# Altium footprint library PARTICLE_B_SOM_M2.PcbLib: 1 footprints
Each footprint in its own frame and in the unit in brackets; x right, y up, seen from the top. Pads: shape width x height; smd on the part's side, far side on the other; paste and mask are expansions set on the pad; w line width, h text height; cw(c..) or ccw(c..) is an arc to the next point about the centre after c.
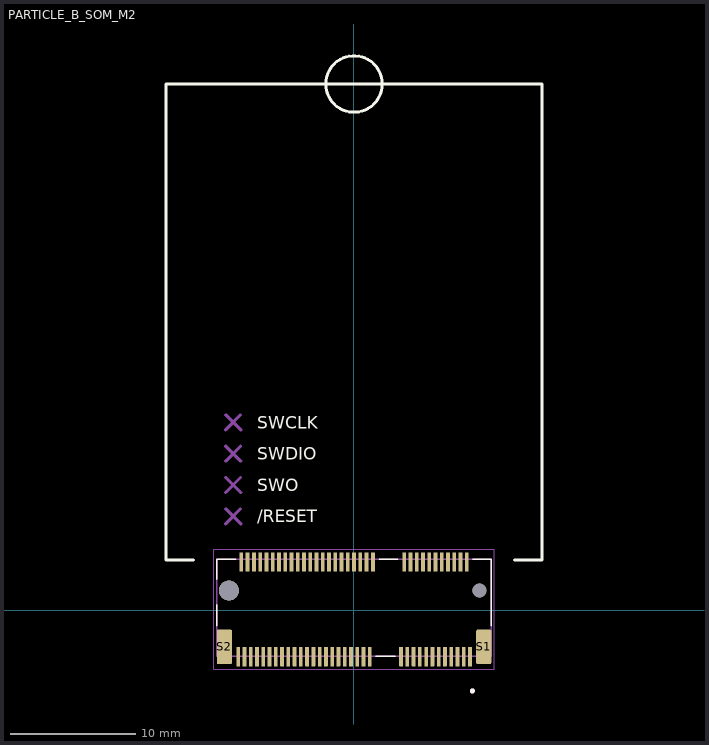
[diagram p0: the footprint, top view; thin cyan lines are the x and y axes]

## PARTICLE_B_SOM_M2 [mm]
pads (71):
  rrect15% 0.3x1.55 smd mask+0.052: 1(9.258,-3.707) 2(9.008,3.843) 3(8.758,-3.707) 4(8.508,3.843) 5(8.258,-3.707) 6(8.008,3.843) 7(7.758,-3.707) 8(7.508,3.843) 9(7.258,-3.707) 10(7.008,3.843) 11(6.758,-3.707) 12(6.508,3.843) 13(6.258,-3.707) 14(6.008,3.843) 15(5.758,-3.707) 16(5.508,3.843) 17(5.258,-3.707) 18(5.008,3.843) 19(4.758,-3.707) 20(4.508,3.843) 21(4.258,-3.707) 22(4.008,3.843) 23(3.758,-3.707) 32(1.508,3.843) 33(1.258,-3.707) 34(1.008,3.843) 35(0.758,-3.707) 36(0.508,3.843) 37(0.258,-3.707) 38(0.008,3.843) 39(-0.242,-3.707) 40(-0.492,3.843) 41(-0.742,-3.707) 42(-0.992,3.843) 43(-1.242,-3.707) 44(-1.492,3.843) 45(-1.742,-3.707) 46(-1.992,3.843) 47(-2.242,-3.707) 48(-2.492,3.843) 49(-2.742,-3.707) 50(-2.992,3.843) 51(-3.242,-3.707) 52(-3.492,3.843) 53(-3.742,-3.707) 54(-3.992,3.843) 55(-4.242,-3.707) 56(-4.492,3.843) 57(-4.742,-3.707) 58(-4.992,3.843) 59(-5.242,-3.707) 60(-5.492,3.843) 61(-5.742,-3.707) 62(-5.992,3.843) 63(-6.242,-3.707) 64(-6.492,3.843) 65(-6.742,-3.707) 66(-6.992,3.843) 67(-7.242,-3.707) 68(-7.492,3.843) 69(-7.742,-3.707) 70(-7.992,3.843) 71(-8.242,-3.707) 72(-8.492,3.843) 73(-8.742,-3.707) 74(-8.992,3.843) 75(-9.242,-3.707)
  rrect15% 1.2x2.75 smd: S1(10.358,-2.932) S2(-10.342,-2.932)
  round 1.6 hole 1.6 unplated: ""(-9.992,1.568)
  round 1.1 hole 1.1 unplated: ""(10.008,1.568)
Top Overlay:
  circle w0.2: c9.442,-6.446 r0.1
  circle w0.24: c0,42 r2.25
  lines w0.127: -10.942,-1.237 -10.942,0.448 ; -10.942,2.468 -10.942,4.068 -9.462,4.068 ; 1.728,-3.682 3.288,-3.682 ; 2.008,4.068 3.508,4.068 ; 9.478,4.068 10.958,4.068 10.958,-1.237
  lines w0.254: -12.827,4 -15,4 -15,42 15,42 15,4 12.827,4
  text "SWCLK" at -7.724,14.501 h1
  text "SWDIO" at -7.724,12.001 h1
  text "SWO" at -7.724,9.501 h1
  text "/RESET" at -7.724,7.001 h1
Top Assembly:
  lines w0.254: -10.253,6.896 -9.062,8.087 ; -10.253,9.396 -9.062,10.587 ; -10.253,11.896 -9.062,13.087 ; -10.253,14.396 -9.062,15.587 ; -10.236,8.087 -9.045,6.896 ; -10.236,10.587 -9.045,9.396 ; -10.236,13.087 -9.045,11.896 ; -10.236,15.587 -9.045,14.396
Top 3D Body:
  circle w0.2: c9.442,-6.446 r0.1
  lines w0.127: -10.942,-3.682 -10.942,4.068 10.958,4.068 10.958,-3.682 -10.942,-3.682
Top Courtyard:
  lines w0.05: -11.192,-4.732 11.208,-4.732 11.208,4.868 -11.192,4.868 -11.192,-4.732
3D body "step_temp.STEP": height 4.2, standoff -0.65, extent -10.95,-4.25 10.95,4.45
3D body "B523.step": height 6, standoff 0.94, extent -15,0 15,42